# Altium footprint library 5152.52-1.PcbLib: 1 footprints
Each footprint in its own frame and in the unit in brackets; x right, y up, seen from the top. Pads: shape width x height; smd on the part's side, far side on the other; paste and mask are expansions set on the pad; w line width, h text height; cw(c..) or ccw(c..) is an arc to the next point about the centre after c.
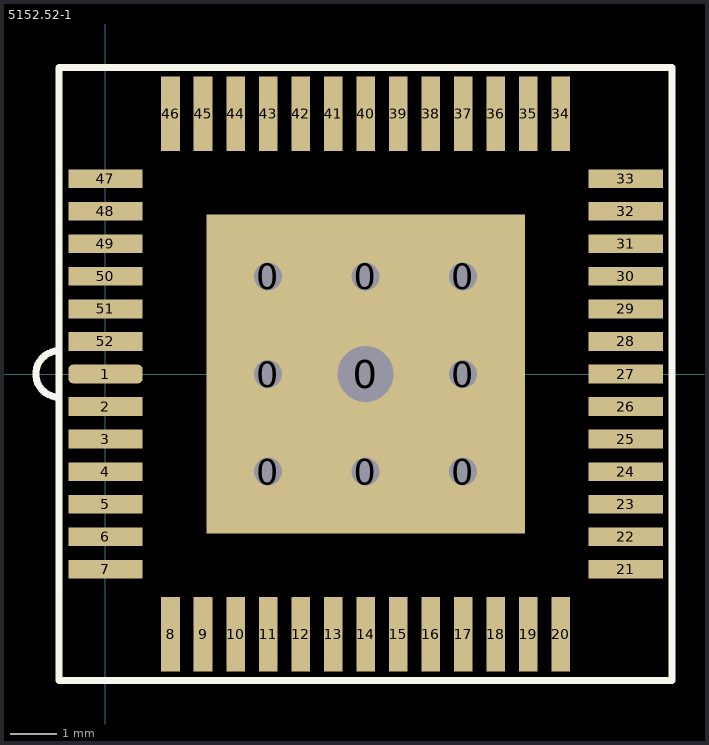
[diagram p0: the footprint, top view; thin cyan lines are the x and y axes]

## 5152.52-1 [mm]
pads (61):
  round 1 hole 0.6 mask+0.051: 0(3.5,-2.1) 0(3.5,0) 0(3.5,2.1) 0(5.6,-2.1) 0(5.6,2.1) 0(7.7,-2.1) 0(7.7,0) 0(7.7,2.1)
  rect 6.858x6.858 / inner round 1.524 / far side round 1.524 hole 1.2 paste-3.429 mask+0: 0(5.6,0)
  rrect50% 1.6x0.4 smd mask+0.051: 1(0,0)
  rect 1.6x0.4 smd mask+0.051: 2(0,-0.7) 3(0,-1.4) 4(0,-2.1) 5(0,-2.8) 6(0,-3.5) 7(0,-4.2) 21(11.2,-4.2) 22(11.2,-3.5) 23(11.2,-2.8) 24(11.2,-2.1) 25(11.2,-1.4) 26(11.2,-0.7) 27(11.2,0) 28(11.2,0.7) 29(11.2,1.4) 30(11.2,2.1) 31(11.2,2.8) 32(11.2,3.5) 33(11.2,4.2) 47(0,4.2) 48(0,3.5) 49(0,2.8) 50(0,2.1) 51(0,1.4) 52(0,0.7)
  rect 0.4x1.6 smd mask+0.051: 8(1.4,-5.6) 9(2.1,-5.6) 10(2.8,-5.6) 11(3.5,-5.6) 12(4.2,-5.6) 13(4.9,-5.6) 14(5.6,-5.6) 15(6.3,-5.6) 16(7,-5.6) 17(7.7,-5.6) 18(8.4,-5.6) 19(9.1,-5.6) 20(9.8,-5.6) 34(9.8,5.6) 35(9.1,5.6) 36(8.4,5.6) 37(7.7,5.6) 38(7,5.6) 39(6.3,5.6) 40(5.6,5.6) 41(4.9,5.6) 42(4.2,5.6) 43(3.5,5.6) 44(2.8,5.6) 45(2.1,5.6) 46(1.4,5.6)
Top Overlay:
  lines w0.152: -1,-0.5 cw(c-1,0) -1,0.5 ; -1,-6.6 12.2,-6.6 12.2,6.6 -1,6.6 -1,-6.6
Top Solder:
  circle w0.914: c5.6,0 r0.457
  lines w1: 3.5,0 7.7,0 ; 5.6,-2.1 5.6,2.1 ; 3.5,-2.1 3.5,2.1 7.7,2.1 7.7,-2.1 3.5,-2.1
Bottom Solder:
  circle w0.864: c5.6,0 r0.432